# Altium footprint library SnapEDApcb.PcbLib: 1 footprints
Each footprint in its own frame and in the unit in brackets; x right, y up, seen from the top. Pads: shape width x height; smd on the part's side, far side on the other; paste and mask are expansions set on the pad; w line width, h text height; cw(c..) or ccw(c..) is an arc to the next point about the centre after c.
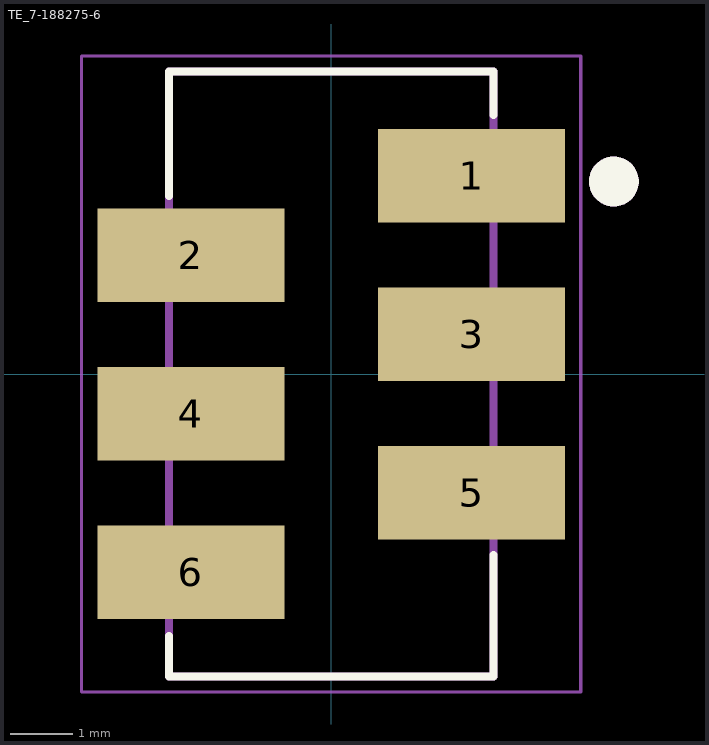
[diagram p0: the footprint, top view; thin cyan lines are the x and y axes]

## TE_7-188275-6 [mm]
pads (6):
  rect 3x1.5 smd: 1(2.25,3.175) 2(-2.25,1.905) 3(2.25,0.635) 4(-2.25,-0.635) 5(2.25,-1.905) 6(-2.25,-3.175)
Top Overlay:
  circle w0.4: c4.53,3.085 r0.2
  lines w0.127: -2.6,-4.2 -2.6,-4.85 2.6,-4.85 2.6,-2.9 ; -2.6,2.85 -2.6,4.85 2.6,4.85 2.6,4.15
Mechanical 13:
  circle w0.4: c4.53,3.085 r0.2
  lines w0.127: -2.6,-4.85 -2.6,4.85 2.6,4.85 2.6,-4.85 -2.6,-4.85
Mechanical 15:
  lines w0.05: -4,-5.1 -4,5.1 4,5.1 4,-5.1 -4,-5.1